# Altium schematic symbol library DECODER BCD.SchLib: 2 symbols
Pins are listed as number, name and electrical type; pins without a type are passive.

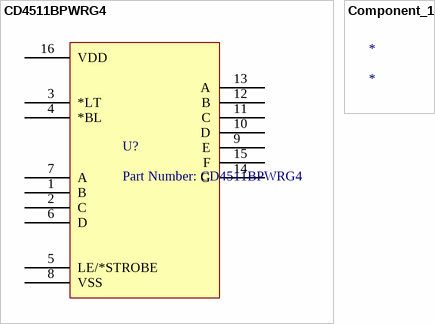
[diagram p0: symbols CD4511BPWRG4 to Component_1]

## CD4511BPWRG4
designator U?, comment Part Number: CD4511BPWRG4
No Description Available; Manufacturer: Texas Instruments; Built_By: EMA_UL_Team; Vendor: Vendor; Manufacturer_Part_Number: CD4511BPWRG4; Copyright: Copyright (C) 2018 Accelerated Designs. All rights reserved; RefDes: RefDes; Type: DEV; Value: Value
footprint PW16
pins: 1 B, 2 C, 3 *LT, 4 *BL, 5 LE/*STROBE, 6 D, 7 A, 8 VSS (power), 9 E, 10 D, 11 C, 12 B, 13 A, 14 G, 15 F, 16 VDD (power)

## Component_1
designator *